# Altium footprint library SamacSys.PcbLib: 24 footprints (part 2 of 2)
Each footprint in its own frame and in the unit in brackets; x right, y up, seen from the top. Pads: shape width x height; smd on the part's side, far side on the other; paste and mask are expansions set on the pad; w line width, h text height; cw(c..) or ccw(c..) is an arc to the next point about the centre after c.
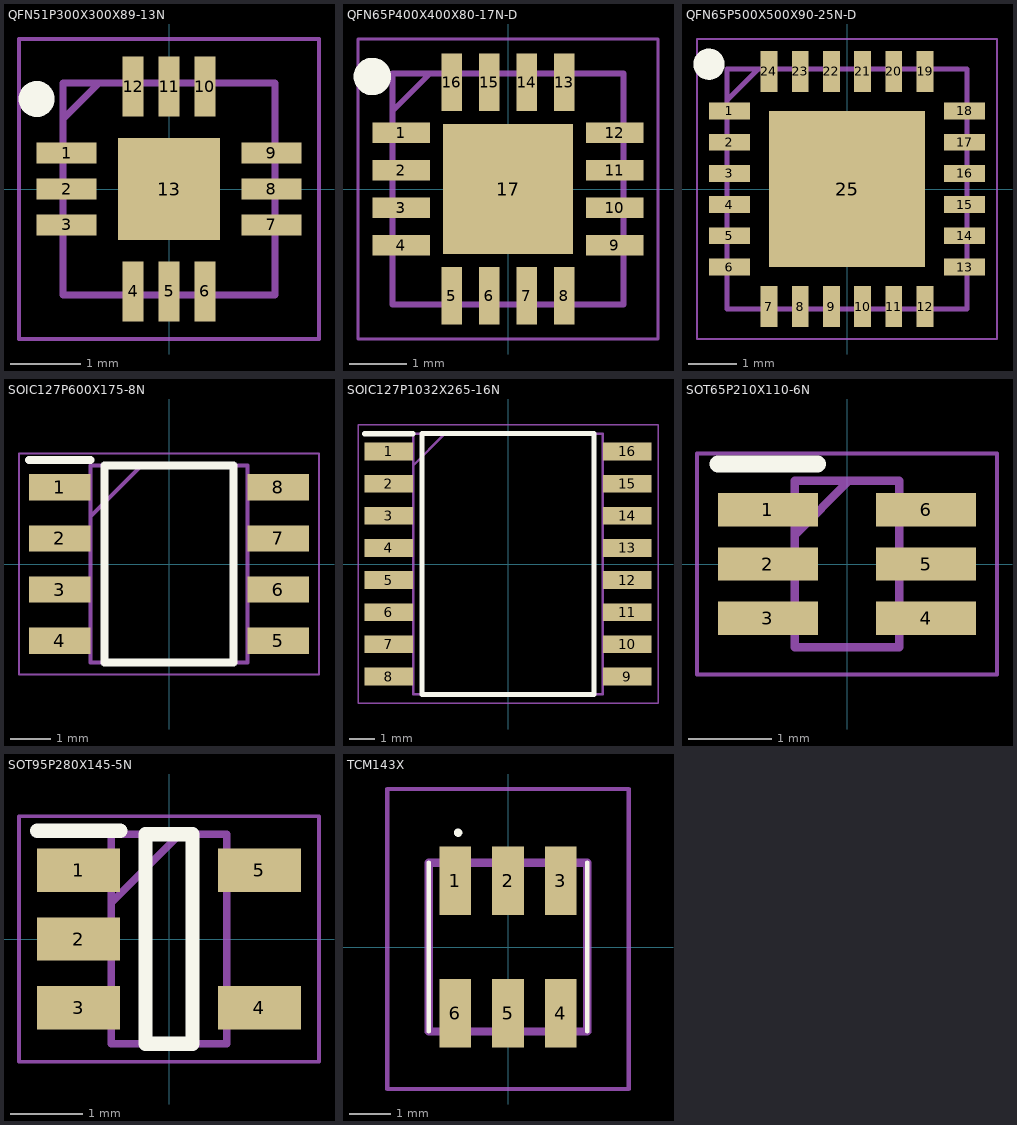
[diagram p1: the footprints below, top view; thin cyan lines are the x and y axes]

## QFN51P300X300X89-13N [mm]
pads (13):
  rect 0.85x0.3 smd: 1(-1.45,0.51) 2(-1.45,0) 3(-1.45,-0.51) 7(1.45,-0.51) 8(1.45,0) 9(1.45,0.51)
  rect 0.3x0.85 smd: 4(-0.51,-1.45) 5(0,-1.45) 6(0.51,-1.45) 10(0.51,1.45) 11(0,1.45) 12(-0.51,1.45)
  rect 1.45x1.45 smd: 13(0,0)
Top Overlay:
  circle w0.255: c-1.876,1.275 r0.128
Mechanical 13:
  lines w0.1: -1.5,0.99 -0.99,1.5 ; -1.5,-1.5 1.5,-1.5 1.5,1.5 -1.5,1.5 -1.5,-1.5
Mechanical 15:
  lines w0.05: -2.125,-2.125 2.125,-2.125 2.125,2.125 -2.125,2.125 -2.125,-2.125
3D body "XLF-192+.stp": height 0.89, standoff 0, extent -1.55,-1.55 1.55,1.55

## QFN65P400X400X80-17N-D [mm]
pads (17):
  rect 1x0.35 smd: 1(-1.85,0.975) 2(-1.85,0.325) 3(-1.85,-0.325) 4(-1.85,-0.975) 9(1.85,-0.975) 10(1.85,-0.325) 11(1.85,0.325) 12(1.85,0.975)
  rect 0.35x1 smd: 5(-0.975,-1.85) 6(-0.325,-1.85) 7(0.325,-1.85) 8(0.975,-1.85) 13(0.975,1.85) 14(0.325,1.85) 15(-0.325,1.85) 16(-0.975,1.85)
  rect 2.25x2.25 smd: 17(0,0)
Top Overlay:
  circle w0.325: c-2.351,1.95 r0.162
Mechanical 13:
  lines w0.1: -2,1.35 -1.35,2 ; -2,-2 2,-2 2,2 -2,2 -2,-2
Mechanical 15:
  lines w0.05: -2.6,-2.6 2.6,-2.6 2.6,2.6 -2.6,2.6 -2.6,-2.6
3D body "MAX16025TE+.stp": height 0.8, standoff 0, extent -2.05,-2.05 2.05,2.05

## QFN65P500X500X90-25N-D [mm]
pads (25):
  rect 0.85x0.35 smd: 1(-2.45,1.625) 2(-2.45,0.975) 3(-2.45,0.325) 4(-2.45,-0.325) 5(-2.45,-0.975) 6(-2.45,-1.625) 13(2.45,-1.625) 14(2.45,-0.975) 15(2.45,-0.325) 16(2.45,0.325) 17(2.45,0.975) 18(2.45,1.625)
  rect 0.35x0.85 smd: 7(-1.625,-2.45) 8(-0.975,-2.45) 9(-0.325,-2.45) 10(0.325,-2.45) 11(0.975,-2.45) 12(1.625,-2.45) 19(1.625,2.45) 20(0.975,2.45) 21(0.325,2.45) 22(-0.325,2.45) 23(-0.975,2.45) 24(-1.625,2.45)
  rect 3.25x3.25 smd: 25(0,0)
Top Overlay:
  circle w0.325: c-2.875,2.6 r0.162
Mechanical 13:
  lines w0.1: -2.5,1.85 -1.85,2.5 ; -2.5,-2.5 2.5,-2.5 2.5,2.5 -2.5,2.5 -2.5,-2.5
Mechanical 15:
  lines w0.05: -3.125,-3.125 3.125,-3.125 3.125,3.125 -3.125,3.125 -3.125,-3.125
3D body "QPA2610.stp": height 0.9, standoff 0, extent -2.55,-2.55 2.55,2.55

## SOIC127P600X175-8N [mm]
pads (8):
  rect 1.525x0.65 smd: 1(-2.712,1.905) 2(-2.712,0.635) 3(-2.712,-0.635) 4(-2.712,-1.905) 5(2.712,-1.905) 6(2.712,-0.635) 7(2.712,0.635) 8(2.712,1.905)
Top Overlay:
  lines w0.2: -3.475,2.58 -1.95,2.58 ; -1.6,-2.45 -1.6,2.45 1.6,2.45 1.6,-2.45 -1.6,-2.45
Mechanical 13:
  lines w0.1: -1.95,1.18 -0.68,2.45 ; -1.95,-2.45 -1.95,2.45 1.95,2.45 1.95,-2.45 -1.95,-2.45
Mechanical 15:
  lines w0.05: -3.725,-2.75 -3.725,2.75 3.725,2.75 3.725,-2.75 -3.725,-2.75
3D body "NE555DR.stp": height 1.75, standoff 0, extent -3,-2.45 3,2.45

## SOIC127P1032X265-16N [mm]
pads (16):
  rect 1.925x0.7 smd: 1(-4.712,4.445) 2(-4.712,3.175) 3(-4.712,1.905) 4(-4.712,0.635) 5(-4.712,-0.635) 6(-4.712,-1.905) 7(-4.712,-3.175) 8(-4.712,-4.445) 9(4.712,-4.445) 10(4.712,-3.175) 11(4.712,-1.905) 12(4.712,-0.635) 13(4.712,0.635) 14(4.712,1.905) 15(4.712,3.175) 16(4.712,4.445)
Top Overlay:
  lines w0.2: -5.675,5.145 -3.75,5.145 ; -3.4,-5.15 -3.4,5.15 3.4,5.15 3.4,-5.15 -3.4,-5.15
Mechanical 13:
  lines w0.1: -3.75,3.88 -2.48,5.15 ; -3.75,-5.15 -3.75,5.15 3.75,5.15 3.75,-5.15 -3.75,-5.15
Mechanical 15:
  lines w0.05: -5.925,-5.5 -5.925,5.5 5.925,5.5 5.925,-5.5 -5.925,-5.5
3D body "MT25QU512ABB8ESF-0SIT.stp": height 2.65, standoff 0, extent -5.162,-5.15 5.162,5.15

## SOT65P210X110-6N [mm]
pads (6):
  rect 1.2x0.4 smd: 1(-0.95,0.65) 2(-0.95,0) 3(-0.95,-0.65) 4(0.95,-0.65) 5(0.95,0) 6(0.95,0.65)
Top Overlay:
  lines w0.2: -1.55,1.2 -0.35,1.2
Mechanical 13:
  lines w0.1: -0.625,0.35 0.025,1 ; -0.625,-1 -0.625,1 0.625,1 0.625,-1 -0.625,-1
Mechanical 15:
  lines w0.05: -1.8,-1.325 -1.8,1.325 1.8,1.325 1.8,-1.325 -1.8,-1.325
3D body "SN74AVC1T45DCKR.stp": height 1.1, standoff 0, extent -1.05,-1 1.05,1

## SOT95P280X145-5N [mm]
pads (5):
  rect 1.15x0.6 smd: 1(-1.25,0.95) 2(-1.25,0) 3(-1.25,-0.95) 4(1.25,-0.95) 5(1.25,0.95)
Top Overlay:
  lines w0.2: -1.825,1.5 -0.675,1.5 ; -0.325,-1.45 -0.325,1.45 0.325,1.45 0.325,-1.45 -0.325,-1.45
Mechanical 13:
  lines w0.1: -0.8,0.5 0.15,1.45 ; -0.8,-1.45 -0.8,1.45 0.8,1.45 0.8,-1.45 -0.8,-1.45
Mechanical 15:
  lines w0.05: -2.075,-1.7 -2.075,1.7 2.075,1.7 2.075,-1.7 -2.075,-1.7
3D body "SPX3819M5-L-5-0_TR.stp": height 1.45, standoff 0, extent -1.4,-1.45 1.4,1.45

## TCM143X [mm]
pads (6):
  rect 0.76x1.65 smd: 1(-1.27,1.59) 2(0,1.59) 3(1.27,1.59) 4(1.27,-1.59) 5(0,-1.59) 6(-1.27,-1.59)
Top Overlay:
  lines w0.1: -1.905,-2.03 -1.905,2.03 ; 1.905,-2.03 1.905,2.03 ; -1.2,2.7 cw(c-1.2,2.75) -1.2,2.8 cw(c-1.2,2.75) -1.2,2.7
Mechanical 13:
  lines w0.2: -1.905,-2.03 -1.905,2.03 1.905,2.03 1.905,-2.03 -1.905,-2.03
Mechanical 15:
  lines w0.1: -2.905,-3.415 -2.905,3.8 2.905,3.8 2.905,-3.415 -2.905,-3.415
3D body "TCM1-43X+.stp": height 4.16, standoff 0, extent -1.905,-2.339 1.905,2.339